# EAGLE library part CMPS12 (library iceberg20)
Kompass, Magnetomter, Gyro, Accelometer, 3,3V -5VDatenblatt: Link <https://www.robot-electronics.co.uk/files/cmps12.pdf>
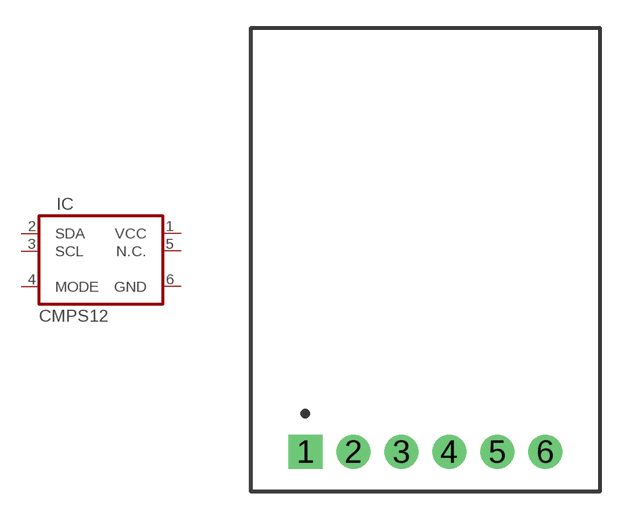
[diagram p5: symbol with the pads of CMPS12; footprint CMPS12]

Designator prefix IC

## CMPS12 (BESTAND: ?; HERSTELLER: -; HERSTELLER-NR: -; SUPPLIER: -; SUPPLIER-NR: -)  [CMPS12]
1  VCC  pwr
2  SDA
3  SCL
4  MODE  in
5  N.C.  nc
6  GND  pwr

## Footprint CMPS12 (pad centres in mm)
Single-row, 6-pin Receptacle Header (Female) Straight, 2.54 mm (0.10 in) col pitch, 7.00 mm insulator length, 15.24 X 2.52 X 7.00 mm body Single-row (1X6), 6-pin Receptacle Header (Female) Straight package with 2.54 mm (0.10 in) col pitch, 1.00 mm lead width, 3.00 mm tail length and 7.00 mm insulator length with overall size 15.24 X 2.52 X 7.00 mm, pin pattern - clockwise from top left
drill 1.2 square: 1 -6.35,-10.16
drill 1.2: 2 -3.81,-10.16; 3 -1.27,-10.16; 4 1.27,-10.16; 5 3.81,-10.16; 6 6.35,-10.16